# Altium schematic symbol library STM_Sensors.SchLib: 1 symbol
Pins are listed as number, name and electrical type; pins without a type are passive.

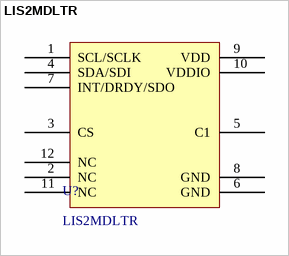
[diagram p0: symbol LIS2MDLTR]

## LIS2MDLTR
designator U?
Supplier 1: Digi-Key; Supplier Part Number 1: 497-17588-1-ND
pins: 1 SCL/SCLK, 2 NC, 3 CS, 4 SDA/SDI, 5 C1, 6 GND, 7 INT/DRDY/SDO, 8 GND, 9 VDD, 10 VDDIO, 11 NC, 12 NC